# EAGLE library part ESP-WROOM-02 (library esp-wroom-02)
WiFi module - ESP-WROOM-02
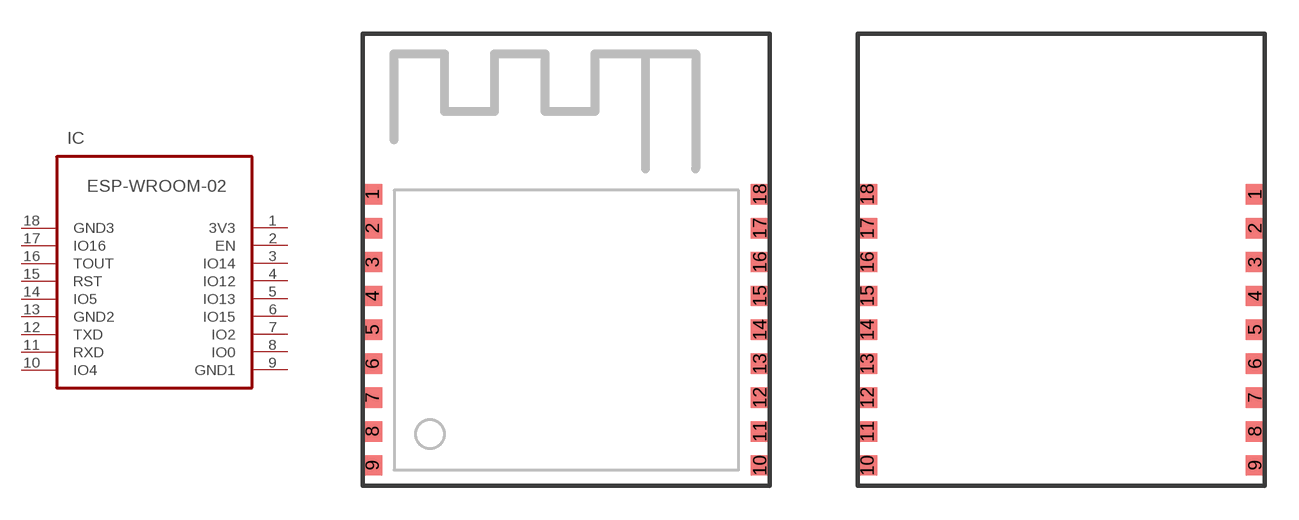
[diagram p0: symbol with the pads of FRONT-FACE; footprints FRONT-FACE, BACK-FACE]

Designator prefix IC

## ESP-WROOM-02FRONT-FACE  [FRONT-FACE]
1  3V3  pwr
2  EN
3  IO14
4  IO12
5  IO13
6  IO15
7  IO2
8  IO0
9  GND1  pwr
10  IO4
11  RXD
12  TXD
13  GND2  pwr
14  IO5  oc
15  RST
16  TOUT
17  IO16
18  GND3  pwr

## ESP-WROOM-02BACK-FACE  [BACK-FACE]
Pads as for FRONT-FACE

## ESP-WROOM-02FRONT-FACE_LARGE_PADS  [FRONT-FACE_LARGE_PADS]
Pads as for FRONT-FACE

## Footprint FRONT-FACE (pad centres in mm)
Front Face Top
smd 0.85 x 0.9: 1 -8.57,4.9; 2 -8.57,3.4; 3 -8.57,1.9; 4 -8.57,0.4; 5 -8.57,-1.1; 6 -8.57,-2.6; 7 -8.57,-4.1; 8 -8.57,-5.6; 9 -8.57,-7.1; 10 8.57,-7.1; 11 8.57,-5.6; 12 8.57,-4.1; 13 8.57,-2.6; 14 8.57,-1.1; 15 8.57,0.4; 16 8.57,1.9; 17 8.57,3.4; 18 8.57,4.9

## Footprint BACK-FACE (pad centres in mm)
Back Face Top
smd 0.85 x 0.9: 1 8.575,4.9; 2 8.575,3.4; 3 8.575,1.9; 4 8.575,0.4; 5 8.575,-1.1; 6 8.575,-2.6; 7 8.575,-4.1; 8 8.575,-5.6; 9 8.575,-7.1; 10 -8.575,-7.1; 11 -8.575,-5.6; 12 -8.575,-4.1; 13 -8.575,-2.6; 14 -8.575,-1.1; 15 -8.575,0.4; 16 -8.575,1.9; 17 -8.575,3.4; 18 -8.575,4.9

## Footprint FRONT-FACE_LARGE_PADS (pad centres in mm)
smd 1.35 x 0.9: 1 -8.82,4.9; 2 -8.82,3.4; 3 -8.82,1.9; 4 -8.82,0.4; 5 -8.82,-1.1; 6 -8.82,-2.6; 7 -8.82,-4.1; 8 -8.82,-5.6; 9 -8.82,-7.1; 10 8.82,-7.1; 11 8.82,-5.6; 12 8.82,-4.1; 13 8.82,-2.6; 14 8.82,-1.1; 15 8.82,0.4; 16 8.82,1.9; 17 8.82,3.4; 18 8.82,4.9